# EAGLE library part ADS1100 (library SDSURocket-DigitalIC)
Self-Calibrating, 16-Bit Analog-to-Digital Converter
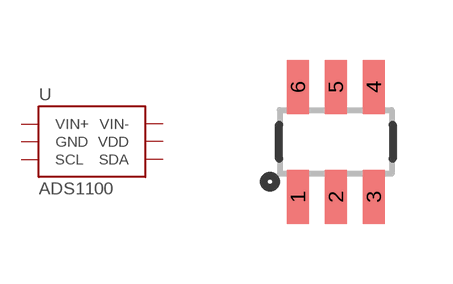
[diagram p1: symbol with the pads of SOT23-6; footprint SOT23-6]

Designator prefix -

## ADS1100-SOT23  [SOT23-6]
1  VIN+  in
2  GND  pwr
3  SCL  in
4  SDA
5  VDD  pwr
6  VIN-  in

## Footprint SOT23-6 (pad centres in mm)
smd 0.55 x 1.35: 1 -0.95,-1.375; 2 0,-1.375; 3 0.95,-1.375; 4 0.95,1.375; 5 0,1.375; 6 -0.95,1.375